# Altium footprint library SO-8 Transistor.PcbLib: 2 footprints
Each footprint in its own frame and in the unit in brackets; x right, y up, seen from the top. Pads: shape width x height; smd on the part's side, far side on the other; paste and mask are expansions set on the pad; w line width, h text height; cw(c..) or ccw(c..) is an arc to the next point about the centre after c.
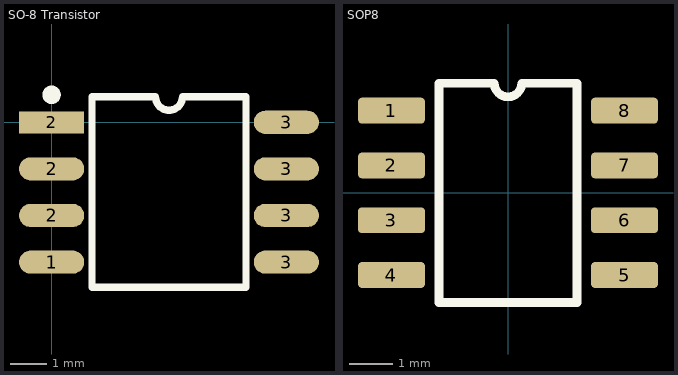
[diagram p0: the footprints below, top view; thin cyan lines are the x and y axes]

## SO-8 Transistor [mil]
pads (8):
  oval 70x25 smd: 1(0,-150) 2(0,-100) 2(0,-50) 3(251.97,-150) 3(251.97,-100) 3(251.97,-50) 3(251.97,0)
  rect 70x23.62 smd: 2(0,0)
Top Overlay:
  circle w9.84: c0,29.53 r4.92
  lines w7.87: 207.26,-177.17 43.31,-177.17 43.31,27.42 111.55,27.42 ccw(c125.98,27.42) 140.42,27.42 208.66,27.42 208.66,-177.17
Mechanical 15:
  text "'.Designator'" at -27.56,-111.56 h78.74
Top Designator (Mech16):
  text "'.Designator'" at 165.36,-150.59 h59.06
3D body "SOIC-8.step": height 68.7, standoff -0.31, extent 3.95,-173.24 248.02,23.61

## SOP8 [mm]
height 11
pads (8):
  rrect30% 1.55x0.6 smd: 1(-2.7,1.905) 2(-2.7,0.635) 3(-2.7,-0.635) 4(-2.7,-1.905) 5(2.7,-1.905) 6(2.7,-0.635) 7(2.7,0.635) 8(2.7,1.905)
Top Overlay:
  lines w0.2: -1.6,-2.54 1.6,-2.54 1.6,2.54 0.318,2.54 cw(c0,2.54) -0.318,2.54 -1.6,2.54 -1.6,-2.54
3D body "CircuitWorks-SO-8.step": height 1.45, standoff 0, extent -2.889,-2.445 2.889,2.457